# EAGLE library part SWITCH,BUTTON,SMT (library StdBxLibrary_BETA_)
ALPHA! Switch, DPDT, SMT, 200mA, 14V, ROUND CAP Available in Momentary and Push-on/Push-off
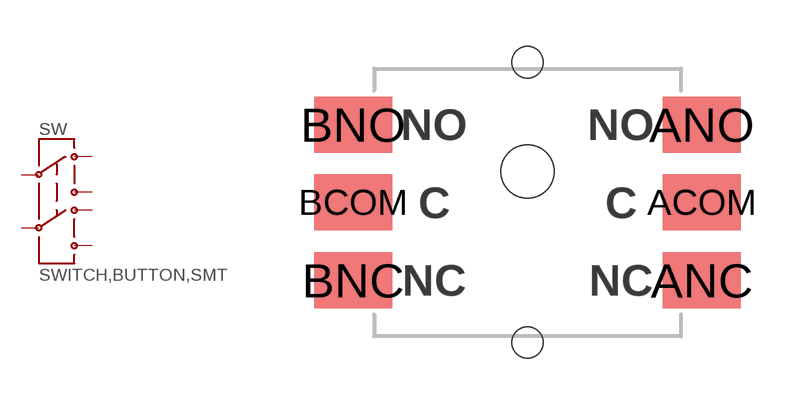
[diagram p4: symbol with the pads of SB-BUTTON-SMT; footprint SB-BUTTON-SMT]

Designator prefix SW

## SWITCH,BUTTON,SMT,ROUND-CAP  [SB-BUTTON-SMT]
ACOM  1C
ANC  1NC
ANO  1NO
BCOM  2C
BNC  2NC
BNO  2NO

## Footprint SB-BUTTON-SMT (pad centres in mm)
NOTE: Registration hole appears reversed between C&K and Panasonic parts. C&K: hole is between C and NO. Panasonic: hole is between C and NC. THIS LAYOUT: per C&K between C and NO. YET TO BE VERIFIED!!
smd 2.5 x 1.8: ACOM 5.6,0; ANC 5.6,-2.5; ANO 5.6,2.5; BCOM -5.6,0; BNC -5.6,-2.5; BNO -5.6,2.5
hole 1.7 at 0,1
hole 1 at 0,4.5
hole 1 at 0,-4.5